# Altium schematic symbol library Load Switch.SchLib: 7 symbols
Pins are listed as number, name and electrical type; pins without a type are passive.

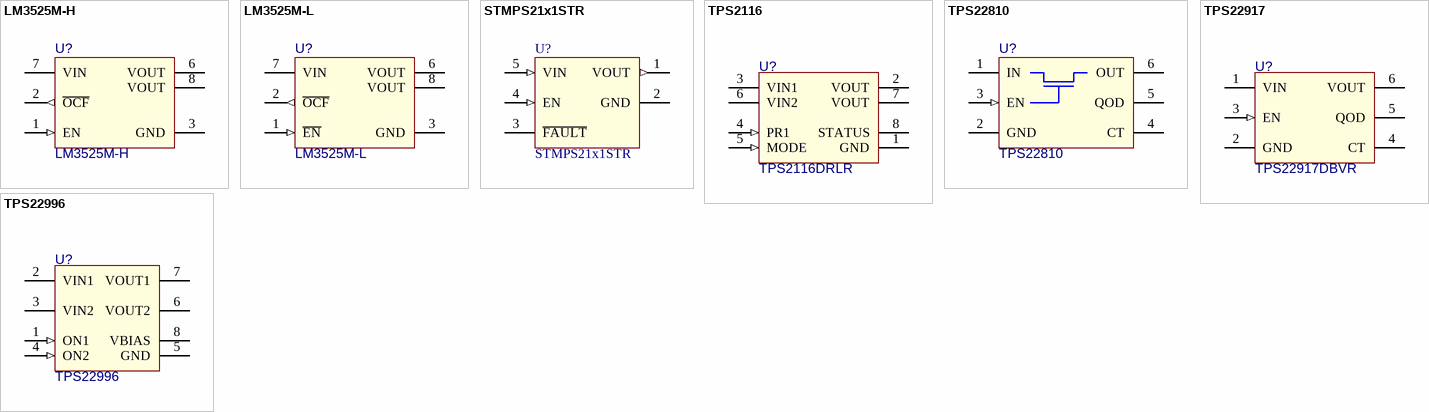
[diagram p0: symbols LM3525M-H to TPS22996]

## LM3525M-H
designator U?
LM3525 Single Port USB Power Switch and Over-Current Protection; value: LM3525M-H
footprint SO-8_N (Footprint not found)
pins: 1 EN (in), 2 ~{OCF} (out), 3 GND (power), 6 VOUT (power), 7 VIN (power), 8 VOUT

## LM3525M-L
designator U?
LM3525 Single Port USB Power Switch and Over-Current Protection; value: LM3525M-L
footprint SO-8_N (Footprint not found)
pins: 1 ~{EN} (in), 2 ~{OCF} (out), 3 GND (power), 6 VOUT (power), 7 VIN (power), 8 VOUT

## STMPS21x1STR
designator U?
Enhanced single channel power switches, STMPS2141, STMPS2151, / STMPS2161, STMPS2171; value: STMPS21x1STR
footprint SOT-23-5 (Footprint not found)
pins: 1 VOUT (out), 2 GND (power), 3 ~{FAULT} (oc), 4 EN (in), 5 VIN (in)

## TPS2116
designator U?  value TPS2116DRLR  (hidden comment: TPS2116)
TPS2116 1.6 V to 5.5 V, 2.5-A Low IQ Power Mux with Manual and Priority Switchover
footprint SOT-563-8 (DRL0008A) (SOT-563, 8-Leads, Body 2.10x1.20mm, Pitch 0.50mm, IPC Medium Density)
pins: 1 GND (power), 2 VOUT (power) "Output power", 3 VIN1 (power) "Channel 1 input power.", 4 PR1 (in) "Selects between VIN1 and VIN2.", 5 MODE (in), 6 VIN2 (power) "Channel 2 input power.", 7 VOUT (power) "Output power", 8 STATUS "Open drain status pin. Pulled low when VIN1 is not being used."

## TPS22810
designator U?  value TPS22810
2.7-18-V, 79-mΩ On-Resistance Load Switch With Thermal Protection
footprint SOT-23-6 (SOT23, 6-Leads, Body 2.9x1.6mm, Pitch 0.95mm, Lead Span 2.8mm, IPC Medium Density)
pins: 1 IN (power), 2 GND (power), 3 EN (in), 4 CT, 5 QOD, 6 OUT (power)

## TPS22917
designator U?  value TPS22917DBVR  (hidden comment: TPS22917)
TPS22917x 1 V–5.5-V, 2-A, 80-mΩ Ultra-Low Leakage Load Switch
footprint SOT-23-6 (Footprint not found)
pins: 1 VIN (power) "Input power", 2 GND (power), 3 EN (in) "Active high switch control input. Do not leave floating.", 4 CT, 5 QOD "Open drain status pin. Pulled low when VIN1 is not being used.", 6 VOUT (power) "Output power"

## TPS22996
designator U?
5.5V, 4A, 14mΩ On-Resistance Dual-Channel Load Switch; Value: TPS22996
footprint SOT-563-8 (DRL0008A) (SOT-563, 8-Leads, Body 2.10x1.20mm, Pitch 0.50mm, IPC Medium Density)
pins: 1 ON1 (in) "Selects between VIN1 and VIN2.", 2 VIN1 (power) "Channel 1 input power.", 3 VIN2 (power) "Channel 2 input power.", 4 ON2 (in), 5 GND (power), 6 VOUT2 (power) "Output power", 7 VOUT1 (power) "Output power", 8 VBIAS "Channel 2 input power."